# Altium footprint library SWARM_M138.PcbLib: 1 footprints
Each footprint in its own frame and in the unit in brackets; x right, y up, seen from the top. Pads: shape width x height; smd on the part's side, far side on the other; paste and mask are expansions set on the pad; w line width, h text height; cw(c..) or ccw(c..) is an arc to the next point about the centre after c.
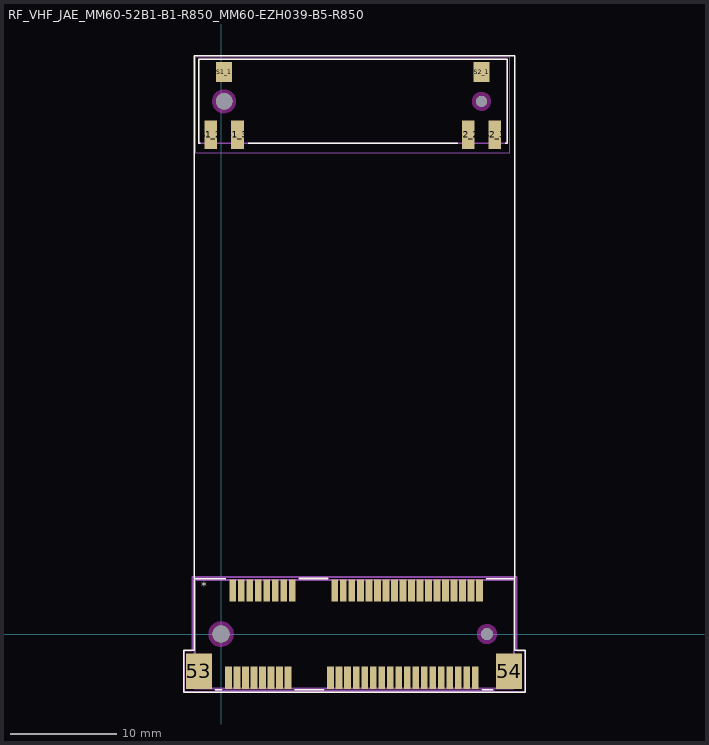
[diagram p0: the footprint, top view; thin cyan lines are the x and y axes]

## RF_VHF_JAE_MM60-52B1-B1-R850_MM60-EZH039-B5-R850_w_2005_mPCIe_card [mm]
height 1.16
pads (64):
  rect 0.635x2.108 smd: 1(0.7,-4.1) 2(1.1,4.1) 3(1.5,-4.1) 4(1.9,4.1) 5(2.3,-4.1) 6(2.7,4.1) 7(3.1,-4.1) 8(3.5,4.1) 9(3.9,-4.1) 10(4.3,4.1) 11(4.7,-4.1) 12(5.1,4.1) 13(5.5,-4.1) 14(5.9,4.1) 15(6.3,-4.1) 16(6.7,4.1) 17(10.3,-4.1) 18(10.7,4.1) 19(11.1,-4.1) 20(11.5,4.1) 21(11.9,-4.1) 22(12.3,4.1) 23(12.7,-4.1) 24(13.1,4.1) 25(13.5,-4.1) 26(13.9,4.1) 27(14.3,-4.1) 28(14.7,4.1) 29(15.1,-4.1) 30(15.5,4.1) 31(15.9,-4.1) 32(16.3,4.1) 33(16.7,-4.1) 34(17.1,4.1) 35(17.5,-4.1) 36(17.9,4.1) 37(18.3,-4.1) 38(18.7,4.1) 39(19.1,-4.1) 40(19.5,4.1) 41(19.9,-4.1) 42(20.3,4.1) 43(20.7,-4.1) 44(21.1,4.1) 45(21.5,-4.1) 46(21.9,4.1) 47(22.3,-4.1) 48(22.7,4.1) 49(23.1,-4.1) 50(23.5,4.1) 51(23.9,-4.1) 52(24.3,4.1)
  rect 2.438x3.353 smd: 53(-2.075,-3.5) 54(27.075,-3.5)
  rect 1.5x1.9 smd: S1_1(0.288,52.839) S2_1(24.488,52.839)
  rect 1.2x2.7 smd: S1_2(-0.962,46.939) S1_3(1.538,46.939) S2_2(23.238,46.939) S2_3(25.738,46.939)
  round 1.626 hole 1.626 unplated: ""(0,0)
  round 1.55 hole 1.55 unplated mask+0.102: ""(0.288,50.089)
  round 1.05 hole 1.05 unplated: ""(24.488,50.089)
  round 1.118 hole 1.118 unplated: ""(25,0)
Top Overlay:
  lines w0.127: -2.54,5.182 -2.54,54.356 ; -2.54,54.371 27.61,54.371 27.61,5.207 ; -1.962,46.139 -2.112,46.139 -2.112,54.039 26.888,54.039 26.888,46.139 26.738,46.139 ; 0.445,5.227 -2.54,5.227 -2.54,-1.524 -3.505,-1.524 -3.505,-5.461 28.6,-5.461 28.6,-1.524 27.61,-1.524 27.61,5.227 24.955,5.227 ; 2.538,46.139 22.238,46.139
  lines w0.152: -0.529,-5.238 0.048,-5.238 ; 6.952,-5.238 9.648,-5.238 ; 7.355,5.227 10.045,5.227 ; 24.552,-5.238 25.529,-5.238
  text "*" at -1.84,4.1 h0.79
Top Solder:
  region: 25,0.82 24.788,0.792 24.59,0.71 24.42,0.58 24.29,0.41 24.208,0.212 24.18,0 24.208,-0.212 24.29,-0.41 24.42,-0.58 24.59,-0.71 24.788,-0.792 25,-0.82 25.212,-0.792 25.41,-0.71 25.58,-0.58 25.71,-0.41 25.792,-0.212 25.82,0 25.792,0.212 25.71,0.41 25.58,0.58 25.41,0.71 25.212,0.792
  region: 0,1.076 -0.278,1.039 -0.538,0.932 -0.761,0.761 -0.932,0.538 -1.039,0.278 -1.076,0 -1.039,-0.279 -0.932,-0.538 -0.761,-0.761 -0.538,-0.932 -0.278,-1.039 0,-1.076 0.278,-1.039 0.538,-0.932 0.761,-0.761 0.932,-0.538 1.039,-0.279 1.076,0 1.039,0.278 0.932,0.538 0.761,0.761 0.538,0.932 0.278,1.039
Keep-Out Layer:
  circle w0.381: c24.486,50.089 r0.711
  circle w0.381: c0.279,50.089 r0.94
  circle w0.381: c25,0 r0.762
  circle w0.381: c0,0 r1.016
Mechanical 1:
  text "*" at -1.84,4.1 h0.79
Mechanical 6:
  lines w0.05: -2.362,45.239 27.138,45.239 27.138,54.289 -2.362,54.289 -2.362,45.239
  lines w0.127: -2.112,46.139 -2.112,54.039 ; -2.112,46.139 26.888,46.139 ; -2.112,46.139 -2.112,54.039 ; -2.112,46.139 26.888,46.139 ; -2.112,54.039 26.888,54.039 ; -2.112,54.039 26.888,54.039 ; 26.888,46.139 26.888,54.039 ; 26.888,46.139 26.888,54.039 ; -2.499,-5.162 27.499,-5.162 27.499,5.049 -2.499,5.049 -2.499,-5.162
  lines w0.152: -3.482,-5.414 -0.536,-5.414 -0.536,-5.349 25.668,-5.349 25.668,-5.414 28.614,-5.414 28.614,-1.554 27.819,-1.554 27.819,5.37 -2.692,5.37 -2.692,-1.554 -3.482,-1.554 -3.482,-5.414 ; -2.433,-5.095 -2.433,5.116 27.565,5.116 27.565,-5.095 -2.433,-5.095
3D body "K3D-MM60-52B1-B1-R2 JAE Connector Division Proprietary.STEP": height 3.8, standoff -0.9, extent -2.36,-5.04 27.34,4.96
3D body "TILE-LB_102120211208.step": height 6.9, standoff 1.77, extent -2.484,-0.085 27.516,50.865
3D body "K3D-MM60-EZH039-B5-R2 JAE Connector Division Proprietary.STEP": height 4.7, standoff -0.9, extent -2.112,46.164 26.888,54.064